# Altium integrated library Battery Holders.IntLib: 1 symbol
Pins are listed as number, name and electrical type; pins without a type are passive.

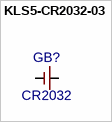
[diagram p0: symbol KLS5-CR2032-03]

## KLS5-CR2032-03
designator GB?, comment CR2032
footprint KLS5-CR2032-03 (Chip Resistor, 2-Leads, Body 2,00x1,25mm, IPC Medium Density)
pins: 0, 1